# Altium footprint library SamacSys.PcbLib: 5 footprints
Each footprint in its own frame and in the unit in brackets; x right, y up, seen from the top. Pads: shape width x height; smd on the part's side, far side on the other; paste and mask are expansions set on the pad; w line width, h text height; cw(c..) or ccw(c..) is an arc to the next point about the centre after c.
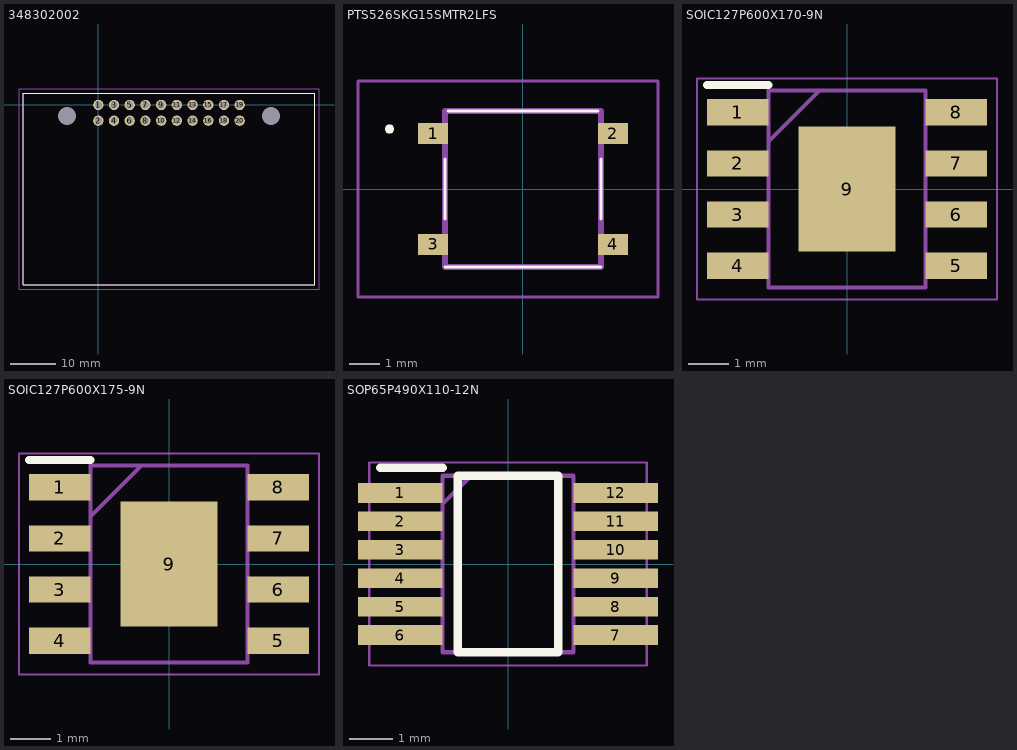
[diagram p0: the footprints below, top view; thin cyan lines are the x and y axes]

## 348302002 [mm]
pads (22):
  round 2.31 hole 1.54: 1(0,0) 2(0,-3.5) 3(3.5,0) 4(3.5,-3.5) 5(7,0) 6(7,-3.5) 7(10.5,0) 8(10.5,-3.5) 9(14,0) 10(14,-3.5) 11(17.5,0) 12(17.5,-3.5) 13(21,0) 14(21,-3.5) 15(24.5,0) 16(24.5,-3.5) 17(28,0) 18(28,-3.5) 19(31.5,0) 20(31.5,-3.5)
  round 2.025 hole 4.05 unplated: MH1(-7,-2.46) MH2(38.5,-2.46)
Top Overlay:
  lines w0.1: -16.665,-40 -16.665,2.56 48.165,2.56 48.165,-40 -16.665,-40
Mechanical 13:
  lines w0.2: -16.665,-40 -16.665,2.56 48.165,2.56 48.165,-40 -16.665,-40
Mechanical 15:
  lines w0.1: -17.665,-41 -17.665,3.56 49.165,3.56 49.165,-41 -17.665,-41
3D body "348302002.step": height 21, standoff -5.48, extent -16.097,-42.179 47.593,0.381

## PTS526SKG15SMTR2LFS [mm]
pads (4):
  rect 1x0.7 smd: 1(-3,1.85) 2(3,1.85) 3(-3,-1.85) 4(3,-1.85)
Top Overlay:
  lines w0.1: -2.6,-2.6 2.6,-2.6 -2.6,-2.6 ; -2.6,-1 -2.6,1 -2.6,-1 ; -2.5,2.6 2.5,2.6 -2.5,2.6 ; 2.6,-1 2.6,1 2.6,-1
  lines w0.2: -4.5,2 ccw(c-4.45,2) -4.4,2 ; -4.5,2 cw(c-4.45,2) -4.4,2 ; -4.5,2 -4.4,2
Mechanical 13:
  lines w0.2: -2.6,-2.6 2.6,-2.6 2.6,2.6 -2.6,2.6 -2.6,-2.6
Mechanical 15:
  lines w0.1: -5.5,-3.6 4.5,-3.6 4.5,3.6 -5.5,3.6 -5.5,-3.6
3D body "PTS526_SK08_SMTR2_LFS.stp": height 1.7, standoff 0, extent -3.43,-2.6 3.43,2.6

## SOIC127P600X170-9N [mm]
pads (9):
  rect 1.525x0.65 smd: 1(-2.712,1.905) 2(-2.712,0.635) 3(-2.712,-0.635) 4(-2.712,-1.905) 5(2.712,-1.905) 6(2.712,-0.635) 7(2.712,0.635) 8(2.712,1.905)
  rect 2.4x3.1 smd: 9(0,0)
Top Overlay:
  lines w0.2: -3.475,2.58 -1.95,2.58
Mechanical 13:
  lines w0.1: -1.95,1.18 -0.68,2.45 ; -1.95,-2.45 1.95,-2.45 1.95,2.45 -1.95,2.45 -1.95,-2.45
Mechanical 15:
  lines w0.05: -3.725,-2.75 3.725,-2.75 3.725,2.75 -3.725,2.75 -3.725,-2.75
3D body "TPS259631DDAR.stp": height 1.7, standoff 0, extent -3,-2.45 3,2.45

## SOIC127P600X175-9N [mm]
pads (9):
  rect 1.525x0.65 smd: 1(-2.712,1.905) 2(-2.712,0.635) 3(-2.712,-0.635) 4(-2.712,-1.905) 5(2.712,-1.905) 6(2.712,-0.635) 7(2.712,0.635) 8(2.712,1.905)
  rect 2.41x3.098 smd: 9(0,0)
Top Overlay:
  lines w0.2: -3.475,2.58 -1.95,2.58
Mechanical 13:
  lines w0.1: -1.95,1.18 -0.68,2.45 ; -1.95,-2.45 1.95,-2.45 1.95,2.45 -1.95,2.45 -1.95,-2.45
Mechanical 15:
  lines w0.05: -3.725,-2.75 3.725,-2.75 3.725,2.75 -3.725,2.75 -3.725,-2.75
3D body "ADP7104ARDZ-5.0-R7.stp": height 1.75, standoff 0, extent -3,-2.45 3,2.45

## SOP65P490X110-12N [mm]
pads (12):
  rect 1.933x0.45 smd: 1(-2.466,1.625) 2(-2.466,0.975) 3(-2.466,0.325) 4(-2.466,-0.325) 5(-2.466,-0.975) 6(-2.466,-1.625) 7(2.466,-1.625) 8(2.466,-0.975) 9(2.466,-0.325) 10(2.466,0.325) 11(2.466,0.975) 12(2.466,1.625)
Top Overlay:
  lines w0.2: -2.925,2.2 -1.5,2.2 ; -1.15,-2.02 -1.15,2.02 1.15,2.02 1.15,-2.02 -1.15,-2.02
Mechanical 13:
  lines w0.1: -1.5,1.37 -0.85,2.02 ; -1.5,-2.02 -1.5,2.02 1.5,2.02 1.5,-2.02 -1.5,-2.02
Mechanical 15:
  lines w0.05: -3.175,-2.32 -3.175,2.32 3.175,2.32 3.175,-2.32 -3.175,-2.32
3D body "LTC2644CMS-L12#PBF.stp": height 1.1, standoff 0, extent -2.45,-2.02 2.45,2.02